# Altium footprint library PCB - SWITCH - CTS 218-2LPJ.PCBLIB: 1 footprints
Each footprint in its own frame and in the unit in brackets; x right, y up, seen from the top. Pads: shape width x height; smd on the part's side, far side on the other; paste and mask are expansions set on the pad; w line width, h text height; cw(c..) or ccw(c..) is an arc to the next point about the centre after c.
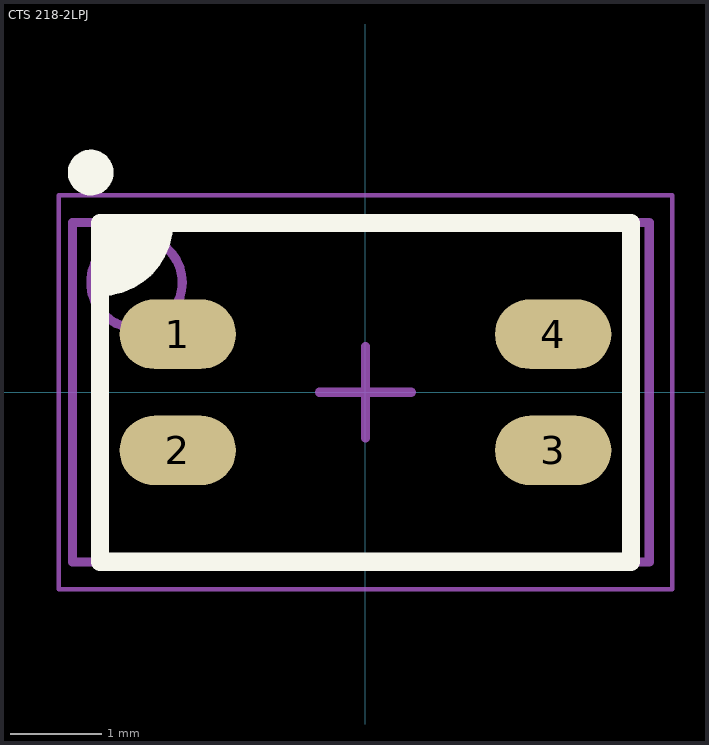
[diagram p0: the footprint, top view; thin cyan lines are the x and y axes]

## CTS 218-2LPJ [mm] "DIP, 2 POS, Body 3.71x6.05mm, Pitch 1.27mm, IPC Medium Density"
height 2.7
pads (4):
  oval 1.27x0.76 smd: 1(-2.05,0.635) 2(-2.05,-0.635) 3(2.05,-0.635) 4(2.05,0.635)
Top Overlay:
  circle w0.25: c-3,2.4 r0.125
  region: -2.9,1.85 -2.9,1.1 -2.7,1.1 -2.2,1.6 -2.2,1.85
  lines w0.2: -2.9,1.15 ccw(c-2.9,1.85) -2.2,1.85 ; -2.9,-1.85 2.9,-1.85 2.9,1.85 -2.9,1.85 -2.9,-1.85
Mechanical 13:
  circle w0.1: c-2.5,1.2 r0.5
  lines w0.1: -3.2,-1.855 -3.2,1.855 3.1,1.855 3.1,-1.855 -3.2,-1.855
Mechanical 15:
  lines w0.05: -3.35,-2.15 -3.35,2.15 3.35,2.15 3.35,-2.15 -3.35,-2.15
  lines w0.1: -0.5,0 0.5,0 ; 0,-0.5 0,0.5
3D body "CTS-218-2LPSTJ.STEP": height 2.71, standoff 0, extent -3.155,-1.855 3.155,1.855